# EAGLE library part ER-OLED010 (library ER-OLED)
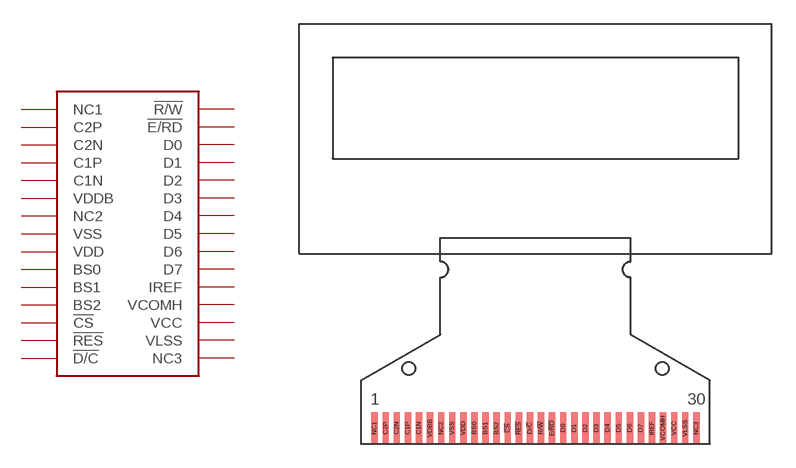
[diagram p0: symbol with the pads of ER-OLED010; footprint ER-OLED010]

Designator prefix -

## ER-OLED010  [ER-OLED010]
!CS  !CS
!RES  !RES
BS0  BS0
BS1  BS1
BS2  BS2
C1N  C1N
C1P  C1P
C2N  C2N
C2P  C2P
D0  D0
D1  D1
D2  D2
D3  D3
D4  D4
D5  D5
D6  D6
D7  D7
D/!C  !D/C
E/!RD  !E/RD
IREF  IREF
NC1  NC1
NC2  NC2
NC3  NC3
R/!W  !R/W
VCC  VCC
VCOMH  VCOMH
VDBB  VDDB
VDD  VDD
VLSS  VLSS
VSS  VSS

## Footprint ER-OLED010 (pad centres in mm)
smd 0.4 x 2: !CS -1.75,1; !RES -1.05,1; BS0 -3.85,1; BS1 -3.15,1; BS2 -2.45,1; C1N -7.35,1; C1P -8.05,1; C2N -8.75,1; C2P -9.45,1; D0 1.75,1; D1 2.45,1; D2 3.15,1; D3 3.85,1; D4 4.55,1; D5 5.25,1; D6 5.95,1; D7 6.65,1; D/!C -0.35,1; E/!RD 1.05,1; IREF 7.35,1; NC1 -10.15,1; NC2 -5.95,1; NC3 10.15,1; R/!W 0.35,1; VCC 8.75,1; VCOMH 8.05,1; VDBB -6.65,1; VDD -4.55,1; VLSS 9.45,1; VSS -5.25,1